# EAGLE library part ACS716 (library Gibbot v4)
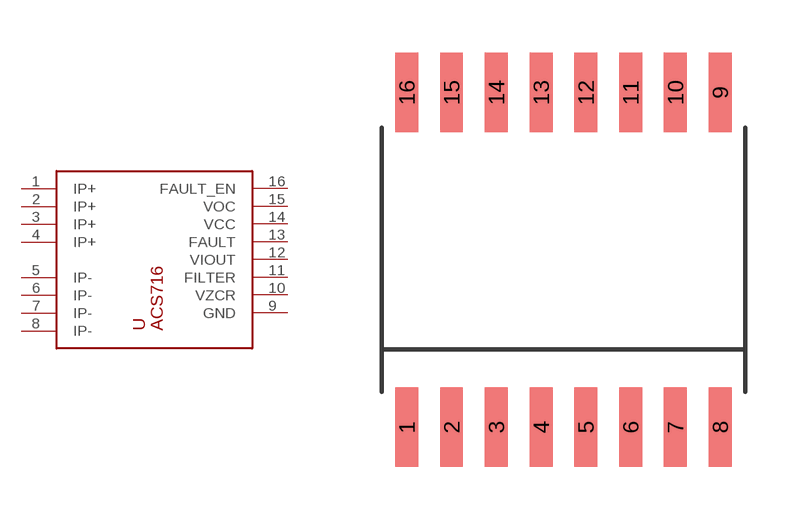
[diagram p2: symbol with the pads of SOIC16-W; footprint SOIC16-W]

Designator prefix -

## ACS716  [SOIC16-W]
1  IP+
2  IP+
3  IP+
4  IP+
5  IP-
6  IP-
7  IP-
8  IP-
9  GND
10  VZCR
11  FILTER
12  VIOUT
13  FAULT
14  VCC
15  VOC
16  FAULT_EN

## Footprint SOIC16-W (pad centres in mm)
smd 0.65 x 2.25: 1 -4.445,-4.75; 2 -3.175,-4.75; 3 -1.905,-4.75; 4 -0.635,-4.75; 5 0.635,-4.75; 6 1.905,-4.75; 7 3.175,-4.75; 8 4.445,-4.75; 9 4.445,4.75; 10 3.175,4.75; 11 1.905,4.75; 12 0.635,4.75; 13 -0.635,4.75; 14 -1.905,4.75; 15 -3.175,4.75; 16 -4.445,4.75